# EAGLE library part MCP4912 (library me433)
MCP4912 - D/A Converter Microchip Technology * 10-bit Dual Voltage Analog Output * 2.7 - 5.5 V Single Supply Operation * SPI Interface
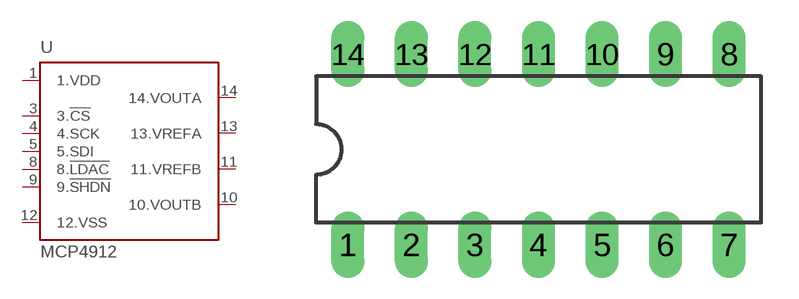
[diagram p3: symbol with the pads of DIP14-3; footprint DIP14-3]

Designator prefix -

## MCP4912  [DIP14-3]
1  1.VDD  in
3  3.!CS!  in
4  4.SCK  in
5  5.SDI  in
8  8.!LDAC!  in
9  9.!SHDN!  in
10  10.VOUTB  in
11  11.VREFB  in
12  12.VSS  in
13  13.VREFA  in
14  14.VOUTA  in

## Footprint DIP14-3 (pad centres in mm)
Dual In-Line Package (DIP) - 14 Pin * Pin Count : 14 * Pin Pitch : 0.1" * Side Pitch : 0.3"
drill 0.813 long: 1 -7.62,-3.81; 2 -5.08,-3.81; 3 -2.54,-3.81; 4 0,-3.81; 5 2.54,-3.81; 6 5.08,-3.81; 7 7.62,-3.81; 8 7.62,3.81; 9 5.08,3.81; 10 2.54,3.81; 11 0,3.81; 12 -2.54,3.81; 13 -5.08,3.81; 14 -7.62,3.81